# Altium footprint library RT9400.PcbLib: 1 footprints
Each footprint in its own frame and in the unit in brackets; x right, y up, seen from the top. Pads: shape width x height; smd on the part's side, far side on the other; paste and mask are expansions set on the pad; w line width, h text height; cw(c..) or ccw(c..) is an arc to the next point about the centre after c.
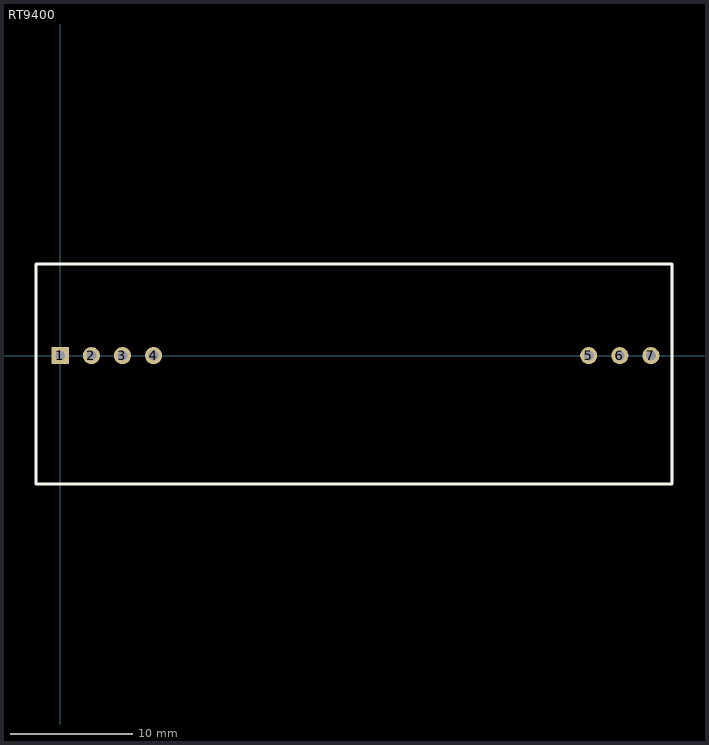
[diagram p0: the footprint, top view; thin cyan lines are the x and y axes]

## RT9400 [mm]
pads (7):
  rect 1.4x1.4 hole 0.8: 1(0,0)
  round 1.4 hole 0.8: 2(2.54,0) 3(5.08,0) 4(7.62,0) 5(43.18,0) 6(45.72,0) 7(48.26,0)
Top Overlay:
  lines w0.254: -2,-10.5 50,-10.5 50,7.5 -2,7.5 -2,-10.5